# EAGLE library part 66 (library display-lcd-lxd)
10 Numerical Digit, .40" (10.16) Direct Drive Display Additional Descriptors: triangles
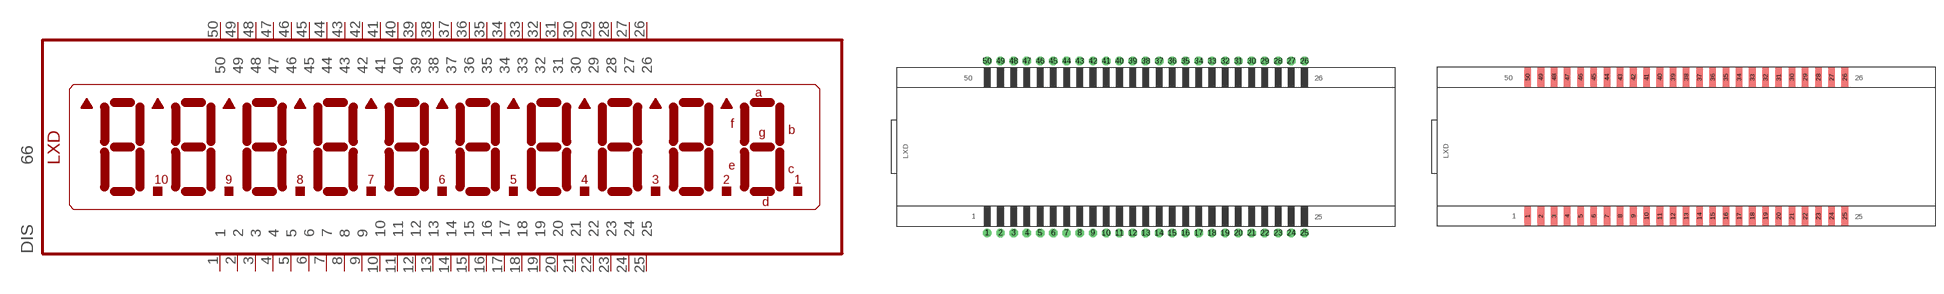
[diagram p32: symbol with the pads of 66-D; footprints 66-D, 66-E]

Designator prefix DIS

## 66DIP  [66-D]
1  1  pas
2  2  pas
3  3  pas
4  4  pas
5  5  pas
6  6  pas
7  7  pas
8  8  pas
9  9  pas
10  10  pas
11  11  pas
12  12  pas
13  13  pas
14  14  pas
15  15  pas
16  16  pas
17  17  pas
18  18  pas
19  19  pas
20  20  pas
21  21  pas
22  22  pas
23  23  pas
24  24  pas
25  25  pas
26  26  pas
27  27  pas
28  28  pas
29  29  pas
30  30  pas
31  31  pas
32  32  pas
33  33  pas
34  34  pas
35  35  pas
36  36  pas
37  37  pas
38  38  pas
39  39  pas
40  40  pas
41  41  pas
42  42  pas
43  43  pas
44  44  pas
45  45  pas
46  46  pas
47  47  pas
48  48  pas
49  49  pas
50  50  pas

## 66SMD  [66-E]
Pads as for 66-D

## Footprint 66-D (pad centres in mm)
Glass Size: 3.695" x 1.20" &nbsp &nbsp &nbsp &nbsp &nbsp &nbsp &nbsp &nbsp &nbsp (93.85 x 30.48)
drill 0.813 pad 1.6: 1 -30.48,-16.51
drill 0.813 pad 1.6 octagon: 2 -27.94,-16.51; 3 -25.4,-16.51; 4 -22.86,-16.51; 5 -20.32,-16.51; 6 -17.78,-16.51; 7 -15.24,-16.51; 8 -12.7,-16.51; 9 -10.16,-16.51; 10 -7.62,-16.51; 11 -5.08,-16.51; 12 -2.54,-16.51; 13 0,-16.51; 14 2.54,-16.51; 15 5.08,-16.51; 16 7.62,-16.51; 17 10.16,-16.51; 18 12.7,-16.51; 19 15.24,-16.51; 20 17.78,-16.51; 21 20.32,-16.51; 22 22.86,-16.51; 23 25.4,-16.51; 24 27.94,-16.51; 25 30.48,-16.51; 26 30.48,16.51; 27 27.94,16.51; 28 25.4,16.51; 29 22.86,16.51; 30 20.32,16.51; 31 17.78,16.51; 32 15.24,16.51; 33 12.7,16.51; 34 10.16,16.51; 35 7.62,16.51; 36 5.08,16.51; 37 2.54,16.51; 38 0,16.51; 39 -2.54,16.51; 40 -5.08,16.51; 41 -7.62,16.51; 42 -10.16,16.51; 43 -12.7,16.51; 44 -15.24,16.51; 45 -17.78,16.51; 46 -20.32,16.51; 47 -22.86,16.51; 48 -25.4,16.51; 49 -27.94,16.51; 50 -30.48,16.51

## Footprint 66-E (pad centres in mm)
Glass Size: 3.695" x 1.20" &nbsp &nbsp &nbsp &nbsp &nbsp &nbsp &nbsp &nbsp &nbsp (93.85 x 30.48)
smd 1.27 x 3.81: 1 -30.48,-13.335; 2 -27.94,-13.335; 3 -25.4,-13.335; 4 -22.86,-13.335; 5 -20.32,-13.335; 6 -17.78,-13.335; 7 -15.24,-13.335; 8 -12.7,-13.335; 9 -10.16,-13.335; 10 -7.62,-13.335; 11 -5.08,-13.335; 12 -2.54,-13.335; 13 0,-13.335; 14 2.54,-13.335; 15 5.08,-13.335; 16 7.62,-13.335; 17 10.16,-13.335; 18 12.7,-13.335; 19 15.24,-13.335; 20 17.78,-13.335; 21 20.32,-13.335; 22 22.86,-13.335; 23 25.4,-13.335; 24 27.94,-13.335; 25 30.48,-13.335; 26 30.48,13.335; 27 27.94,13.335; 28 25.4,13.335; 29 22.86,13.335; 30 20.32,13.335; 31 17.78,13.335; 32 15.24,13.335; 33 12.7,13.335; 34 10.16,13.335; 35 7.62,13.335; 36 5.08,13.335; 37 2.54,13.335; 38 0,13.335; 39 -2.54,13.335; 40 -5.08,13.335; 41 -7.62,13.335; 42 -10.16,13.335; 43 -12.7,13.335; 44 -15.24,13.335; 45 -17.78,13.335; 46 -20.32,13.335; 47 -22.86,13.335; 48 -25.4,13.335; 49 -27.94,13.335; 50 -30.48,13.335